# Altium schematic symbol library Solder bridge.SchLib: 1 symbol
Pins are listed as number, name and electrical type; pins without a type are passive.

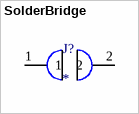
[diagram p0: symbol SolderBridge]

## SolderBridge
designator J?
footprint PCBComponent_1
pins: 1, 2